# EAGLE library part 648107131822 (library Wurth_Elektronik_Electromechanic_Wire_to_Board_Connectors_rev16a)
WR-WTB 1.50mm SMT Male Horizontal Shrouded Header, 7 Pins=>Code : Con_WTB_1.50_PCB_SMT_648107131822 <http://katalog.we-online.de/media/thumbs2/eican/thb_Con_WTB_1.50_PCB_SMT_6481xx131822_pf2.jpg> Details see: http://katalog.we-online.de/en/em/648_1xx_131_822 Created 2014-06-06, Karrer Zheng 2014 (C) Würth Elektronik
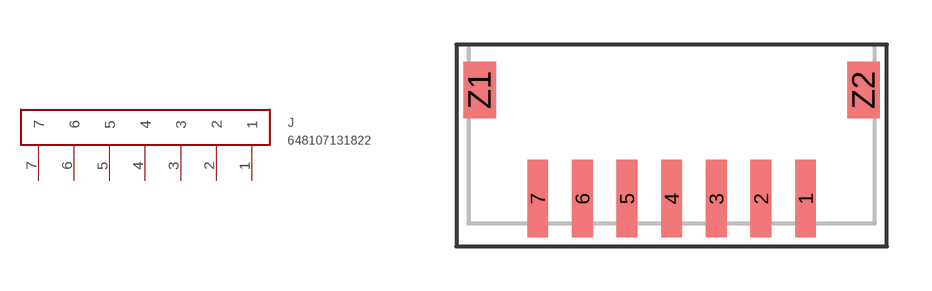
[diagram p49: symbol with the pads of 648107131822; footprint 648107131822]

Designator prefix J

## 648107131822  [648107131822]
1  1  pas
2  2  pas
3  3  pas
4  4  pas
5  5  pas
6  6  pas
7  7  pas

## Footprint 648107131822 (pad centres in mm)
WR-WTB 1.50mm SMT Male Horizontal Shrouded Header, 7 Pins
smd 0.7 x 2.6: 1 8.25,0; 2 6.75,0; 3 5.25,0; 4 3.75,0; 5 2.25,0; 6 0.75,0; 7 -0.75,0
smd 1.1 x 1.9: Z1 -2.7,3.65; Z2 10.2,3.65